# EAGLE library part HC-TYPE-C-16P-CB1.0 (library HC-TYPE-C-16P-CB1.0)
3A 1 Sink panel 16P Female -25~+85 Type-C SMD USB Connectors ROHS Source: Datasheet <https://www.lcsc.com/datasheet/lcsc_datasheet_2211161000_HCTL-HC-TYPE-C-16P-CB1-0_C2894901.pdf>
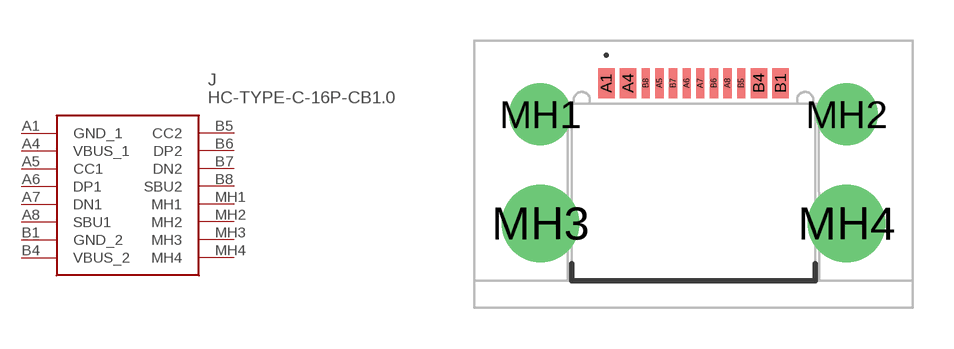
[diagram p0: symbol with the pads of HCTYPEC16PCB10; footprint HCTYPEC16PCB10]

Designator prefix J

## HC-TYPE-C-16P-CB1.0 (Description: 3A 1 Sink panel 16P Female -25~+85 Type-C SMD USB Connectors ROHS; Height: 3.36mm; Manufacturer_Name: hanxia; Manufacturer_Part_Number: HC-TYPE-C-16P-CB1.0)  [HCTYPEC16PCB10]
A1  GND_1
A4  VBUS_1
A5  CC1
A6  DP1
A7  DN1
A8  SBU1
B1  GND_2
B4  VBUS_2
B5  CC2
B6  DP2
B7  DN2
B8  SBU2
MH1  MH1
MH2  MH2
MH3  MH3
MH4  MH4

## Footprint HCTYPEC16PCB10 (pad centres in mm)
HC-TYPE-C-16P-CB1.0-4
smd 0.6 x 1.1: A1 -3.2,3.625; A4 -2.4,3.625; B1 3.2,3.625; B4 2.4,3.625
smd 0.3 x 1.1: A5 -1.25,3.625; A6 -0.25,3.625; A7 0.25,3.625; A8 1.25,3.625; B5 1.75,3.625; B6 0.75,3.625; B7 -0.75,3.625; B8 -1.75,3.625
drill 1.52 pad 2.28: MH1 -5.62,2.475; MH2 5.62,2.475
drill 1.9 pad 2.85: MH3 -5.62,-1.525; MH4 5.62,-1.525